# EAGLE library part HEADER-2X(1X04) (library magzor)
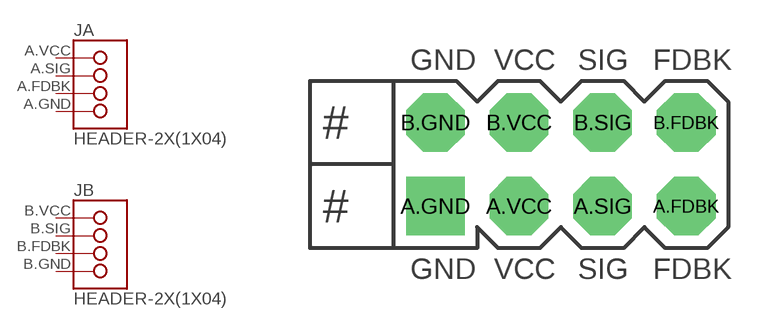
[diagram p29: symbol with the pads of HEADER-2X04-DUAL-SERVO-FDBK; footprint HEADER-2X04-DUAL-SERVO-FDBK]

Designator prefix J; gates A=HEADER-1X04 B=HEADER-1X04

## HEADER-2X(1X04)-DUAL-SERVO-FDBK  [HEADER-2X04-DUAL-SERVO-FDBK]
A.FDBK  A:3
A.GND  A:4
A.SIG  A:2
A.VCC  A:1
B.FDBK  B:3
B.GND  B:4
B.SIG  B:2
B.VCC  B:1

## Footprint HEADER-2X04-DUAL-SERVO-FDBK (pad centres in mm)
drill 0.965 pad 1.778 octagon: A.FDBK 3.81,-1.27; A.SIG 1.27,-1.27; A.VCC -1.27,-1.27; B.FDBK 3.81,1.27; B.GND -3.81,1.27; B.SIG 1.27,1.27; B.VCC -1.27,1.27
drill 0.965 pad 1.778 square: A.GND -3.81,-1.27